# Altium footprint library Motorola Footprints.PcbLib: 408 footprints (part 17 of 26)
Each footprint in its own frame and in the unit in brackets; x right, y up, seen from the top. Pads: shape width x height; smd on the part's side, far side on the other; paste and mask are expansions set on the pad; w line width, h text height; cw(c..) or ccw(c..) is an arc to the next point about the centre after c.
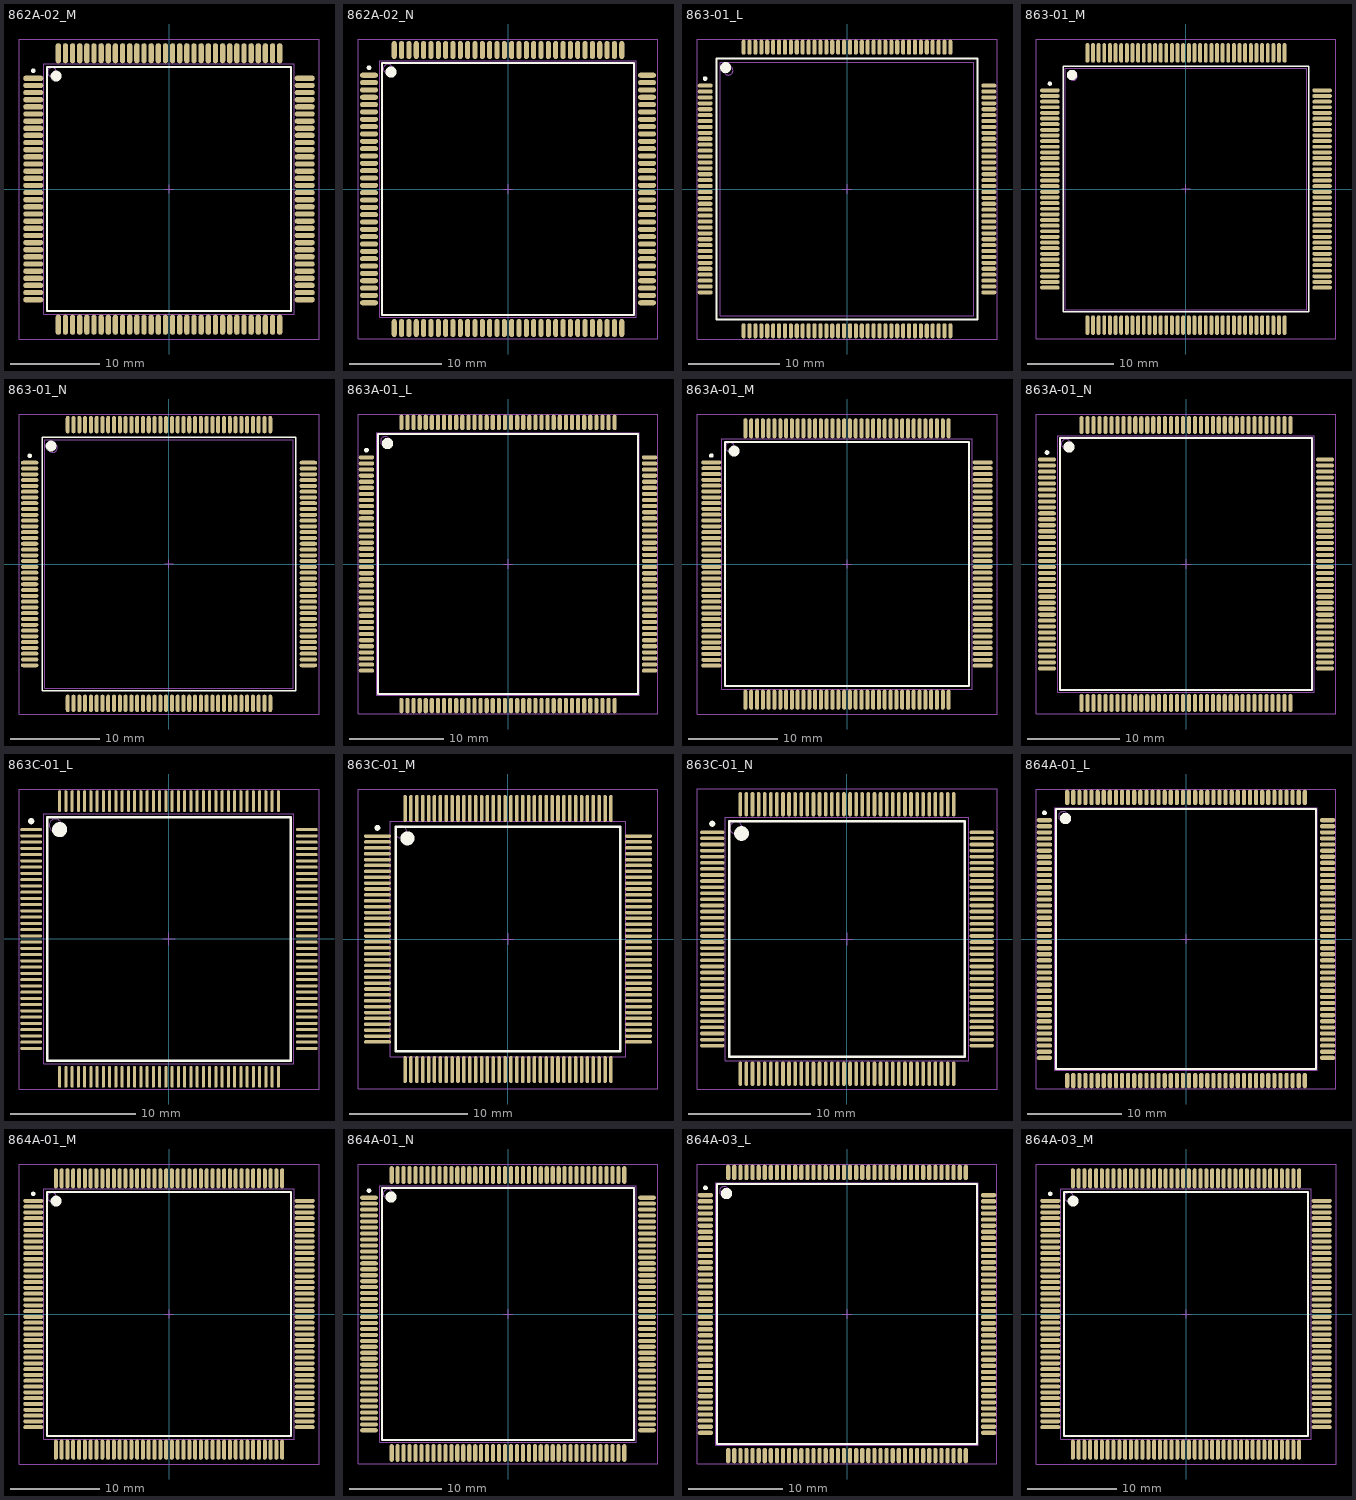
[diagram p16: the footprints below, top view; thin cyan lines are the x and y axes]

## 862A-02_M [mm] "128-Pin Quad Flat Pack 0.8 mm Pitch, IPC Low Density"
height 4.07
pads (128):
  oval 2.25x0.6 smd: 1(-15.2,12.4) 2(-15.2,11.6) 3(-15.2,10.8) 4(-15.2,10) 5(-15.2,9.2) 6(-15.2,8.4) 7(-15.2,7.6) 8(-15.2,6.8) 9(-15.2,6) 10(-15.2,5.2) 11(-15.2,4.4) 12(-15.2,3.6) 13(-15.2,2.8) 14(-15.2,2) 15(-15.2,1.2) 16(-15.2,0.4) 17(-15.2,-0.4) 18(-15.2,-1.2) 19(-15.2,-2) 20(-15.2,-2.8) 21(-15.2,-3.6) 22(-15.2,-4.4) 23(-15.2,-5.2) 24(-15.2,-6) 25(-15.2,-6.8) 26(-15.2,-7.6) 27(-15.2,-8.4) 28(-15.2,-9.2) 29(-15.2,-10) 30(-15.2,-10.8) 31(-15.2,-11.6) 32(-15.2,-12.4) 65(15.2,-12.4) 66(15.2,-11.6) 67(15.2,-10.8) 68(15.2,-10) 69(15.2,-9.2) 70(15.2,-8.4) 71(15.2,-7.6) 72(15.2,-6.8) 73(15.2,-6) 74(15.2,-5.2) 75(15.2,-4.4) 76(15.2,-3.6) 77(15.2,-2.8) 78(15.2,-2) 79(15.2,-1.2) 80(15.2,-0.4) 81(15.2,0.4) 82(15.2,1.2) 83(15.2,2) 84(15.2,2.8) 85(15.2,3.6) 86(15.2,4.4) 87(15.2,5.2) 88(15.2,6) 89(15.2,6.8) 90(15.2,7.6) 91(15.2,8.4) 92(15.2,9.2) 93(15.2,10) 94(15.2,10.8) 95(15.2,11.6) 96(15.2,12.4)
  oval 0.6x2.25 smd: 33(-12.4,-15.2) 34(-11.6,-15.2) 35(-10.8,-15.2) 36(-10,-15.2) 37(-9.2,-15.2) 38(-8.4,-15.2) 39(-7.6,-15.2) 40(-6.8,-15.2) 41(-6,-15.2) 42(-5.2,-15.2) 43(-4.4,-15.2) 44(-3.6,-15.2) 45(-2.8,-15.2) 46(-2,-15.2) 47(-1.2,-15.2) 48(-0.4,-15.2) 49(0.4,-15.2) 50(1.2,-15.2) 51(2,-15.2) 52(2.8,-15.2) 53(3.6,-15.2) 54(4.4,-15.2) 55(5.2,-15.2) 56(6,-15.2) 57(6.8,-15.2) 58(7.6,-15.2) 59(8.4,-15.2) 60(9.2,-15.2) 61(10,-15.2) 62(10.8,-15.2) 63(11.6,-15.2) 64(12.4,-15.2) 97(12.4,15.2) 98(11.6,15.2) 99(10.8,15.2) 100(10,15.2) 101(9.2,15.2) 102(8.4,15.2) 103(7.6,15.2) 104(6.8,15.2) 105(6,15.2) 106(5.2,15.2) 107(4.4,15.2) 108(3.6,15.2) 109(2.8,15.2) 110(2,15.2) 111(1.2,15.2) 112(0.4,15.2) 113(-0.4,15.2) 114(-1.2,15.2) 115(-2,15.2) 116(-2.8,15.2) 117(-3.6,15.2) 118(-4.4,15.2) 119(-5.2,15.2) 120(-6,15.2) 121(-6.8,15.2) 122(-7.6,15.2) 123(-8.4,15.2) 124(-9.2,15.2) 125(-10,15.2) 126(-10.8,15.2) 127(-11.6,15.2) 128(-12.4,15.2)
Top Overlay:
  circle w0.6: c-12.65,12.65 r0.3
  circle w0.25: c-15.2,13.25 r0.125
  lines w0.2: -13.65,-13.65 13.65,-13.65 13.65,13.65 -13.65,13.65 -13.65,-13.65
Mechanical 13:
  circle w0.1: c-13.1,13.1 r0.5
  lines w0.1: -14,-14 14,-14 14,14 -14,14 -14,-14
Mechanical 15:
  lines w0.1: -0.5,0 0.5,0 ; 0,-0.5 0,0.5 ; -16.8,-16.8 16.8,-16.8 16.8,16.8 -16.8,16.8 -16.8,-16.8
3D body: height 4.07, standoff 0, extent -14,-14 14,14

## 862A-02_N [mm] "128-Pin Quad Flat Pack 0.8 mm Pitch, IPC Medium Density"
height 4.07
pads (128):
  oval 1.95x0.55 smd: 1(-15.15,12.4) 2(-15.15,11.6) 3(-15.15,10.8) 4(-15.15,10) 5(-15.15,9.2) 6(-15.15,8.4) 7(-15.15,7.6) 8(-15.15,6.8) 9(-15.15,6) 10(-15.15,5.2) 11(-15.15,4.4) 12(-15.15,3.6) 13(-15.15,2.8) 14(-15.15,2) 15(-15.15,1.2) 16(-15.15,0.4) 17(-15.15,-0.4) 18(-15.15,-1.2) 19(-15.15,-2) 20(-15.15,-2.8) 21(-15.15,-3.6) 22(-15.15,-4.4) 23(-15.15,-5.2) 24(-15.15,-6) 25(-15.15,-6.8) 26(-15.15,-7.6) 27(-15.15,-8.4) 28(-15.15,-9.2) 29(-15.15,-10) 30(-15.15,-10.8) 31(-15.15,-11.6) 32(-15.15,-12.4) 65(15.15,-12.4) 66(15.15,-11.6) 67(15.15,-10.8) 68(15.15,-10) 69(15.15,-9.2) 70(15.15,-8.4) 71(15.15,-7.6) 72(15.15,-6.8) 73(15.15,-6) 74(15.15,-5.2) 75(15.15,-4.4) 76(15.15,-3.6) 77(15.15,-2.8) 78(15.15,-2) 79(15.15,-1.2) 80(15.15,-0.4) 81(15.15,0.4) 82(15.15,1.2) 83(15.15,2) 84(15.15,2.8) 85(15.15,3.6) 86(15.15,4.4) 87(15.15,5.2) 88(15.15,6) 89(15.15,6.8) 90(15.15,7.6) 91(15.15,8.4) 92(15.15,9.2) 93(15.15,10) 94(15.15,10.8) 95(15.15,11.6) 96(15.15,12.4)
  oval 0.55x1.95 smd: 33(-12.4,-15.15) 34(-11.6,-15.15) 35(-10.8,-15.15) 36(-10,-15.15) 37(-9.2,-15.15) 38(-8.4,-15.15) 39(-7.6,-15.15) 40(-6.8,-15.15) 41(-6,-15.15) 42(-5.2,-15.15) 43(-4.4,-15.15) 44(-3.6,-15.15) 45(-2.8,-15.15) 46(-2,-15.15) 47(-1.2,-15.15) 48(-0.4,-15.15) 49(0.4,-15.15) 50(1.2,-15.15) 51(2,-15.15) 52(2.8,-15.15) 53(3.6,-15.15) 54(4.4,-15.15) 55(5.2,-15.15) 56(6,-15.15) 57(6.8,-15.15) 58(7.6,-15.15) 59(8.4,-15.15) 60(9.2,-15.15) 61(10,-15.15) 62(10.8,-15.15) 63(11.6,-15.15) 64(12.4,-15.15) 97(12.4,15.15) 98(11.6,15.15) 99(10.8,15.15) 100(10,15.15) 101(9.2,15.15) 102(8.4,15.15) 103(7.6,15.15) 104(6.8,15.15) 105(6,15.15) 106(5.2,15.15) 107(4.4,15.15) 108(3.6,15.15) 109(2.8,15.15) 110(2,15.15) 111(1.2,15.15) 112(0.4,15.15) 113(-0.4,15.15) 114(-1.2,15.15) 115(-2,15.15) 116(-2.8,15.15) 117(-3.6,15.15) 118(-4.4,15.15) 119(-5.2,15.15) 120(-6,15.15) 121(-6.8,15.15) 122(-7.6,15.15) 123(-8.4,15.15) 124(-9.2,15.15) 125(-10,15.15) 126(-10.8,15.15) 127(-11.6,15.15) 128(-12.4,15.15)
Top Overlay:
  circle w0.6: c-12.75,12.75 r0.3
  circle w0.25: c-15.15,13.225 r0.125
  lines w0.2: -13.75,-13.75 13.75,-13.75 13.75,13.75 -13.75,13.75 -13.75,-13.75
Mechanical 13:
  circle w0.1: c-13.1,13.1 r0.5
  lines w0.1: -14,-14 14,-14 14,14 -14,14 -14,-14
Mechanical 15:
  lines w0.1: -0.5,0 0.5,0 ; 0,-0.5 0,0.5 ; -16.35,-16.35 16.35,-16.35 16.35,16.35 -16.35,16.35 -16.35,-16.35
3D body: height 4.07, standoff 0, extent -14,-14 14,14

## 863-01_L [mm] "144-Pin Ceramic Quad Flat Pack 0.65 mm Pitch, IPC High Density"
height 3.93
pads (144):
  oval 1.65x0.45 smd: 1(-15.6,11.375) 2(-15.6,10.725) 3(-15.6,10.075) 4(-15.6,9.425) 5(-15.6,8.775) 6(-15.6,8.125) 7(-15.6,7.475) 8(-15.6,6.825) 9(-15.6,6.175) 10(-15.6,5.525) 11(-15.6,4.875) 12(-15.6,4.225) 13(-15.6,3.575) 14(-15.6,2.925) 15(-15.6,2.275) 16(-15.6,1.625) 17(-15.6,0.975) 18(-15.6,0.325) 19(-15.6,-0.325) 20(-15.6,-0.975) 21(-15.6,-1.625) 22(-15.6,-2.275) 23(-15.6,-2.925) 24(-15.6,-3.575) 25(-15.6,-4.225) 26(-15.6,-4.875) 27(-15.6,-5.525) 28(-15.6,-6.175) 29(-15.6,-6.825) 30(-15.6,-7.475) 31(-15.6,-8.125) 32(-15.6,-8.775) 33(-15.6,-9.425) 34(-15.6,-10.075) 35(-15.6,-10.725) 36(-15.6,-11.375) 73(15.6,-11.375) 74(15.6,-10.725) 75(15.6,-10.075) 76(15.6,-9.425) 77(15.6,-8.775) 78(15.6,-8.125) 79(15.6,-7.475) 80(15.6,-6.825) 81(15.6,-6.175) 82(15.6,-5.525) 83(15.6,-4.875) 84(15.6,-4.225) 85(15.6,-3.575) 86(15.6,-2.925) 87(15.6,-2.275) 88(15.6,-1.625) 89(15.6,-0.975) 90(15.6,-0.325) 91(15.6,0.325) 92(15.6,0.975) 93(15.6,1.625) 94(15.6,2.275) 95(15.6,2.925) 96(15.6,3.575) 97(15.6,4.225) 98(15.6,4.875) 99(15.6,5.525) 100(15.6,6.175) 101(15.6,6.825) 102(15.6,7.475) 103(15.6,8.125) 104(15.6,8.775) 105(15.6,9.425) 106(15.6,10.075) 107(15.6,10.725) 108(15.6,11.375)
  oval 0.45x1.65 smd: 37(-11.375,-15.6) 38(-10.725,-15.6) 39(-10.075,-15.6) 40(-9.425,-15.6) 41(-8.775,-15.6) 42(-8.125,-15.6) 43(-7.475,-15.6) 44(-6.825,-15.6) 45(-6.175,-15.6) 46(-5.525,-15.6) 47(-4.875,-15.6) 48(-4.225,-15.6) 49(-3.575,-15.6) 50(-2.925,-15.6) 51(-2.275,-15.6) 52(-1.625,-15.6) 53(-0.975,-15.6) 54(-0.325,-15.6) 55(0.325,-15.6) 56(0.975,-15.6) 57(1.625,-15.6) 58(2.275,-15.6) 59(2.925,-15.6) 60(3.575,-15.6) 61(4.225,-15.6) 62(4.875,-15.6) 63(5.525,-15.6) 64(6.175,-15.6) 65(6.825,-15.6) 66(7.475,-15.6) 67(8.125,-15.6) 68(8.775,-15.6) 69(9.425,-15.6) 70(10.075,-15.6) 71(10.725,-15.6) 72(11.375,-15.6) 109(11.375,15.6) 110(10.725,15.6) 111(10.075,15.6) 112(9.425,15.6) 113(8.775,15.6) 114(8.125,15.6) 115(7.475,15.6) 116(6.825,15.6) 117(6.175,15.6) 118(5.525,15.6) 119(4.875,15.6) 120(4.225,15.6) 121(3.575,15.6) 122(2.925,15.6) 123(2.275,15.6) 124(1.625,15.6) 125(0.975,15.6) 126(0.325,15.6) 127(-0.325,15.6) 128(-0.975,15.6) 129(-1.625,15.6) 130(-2.275,15.6) 131(-2.925,15.6) 132(-3.575,15.6) 133(-4.225,15.6) 134(-4.875,15.6) 135(-5.525,15.6) 136(-6.175,15.6) 137(-6.825,15.6) 138(-7.475,15.6) 139(-8.125,15.6) 140(-8.775,15.6) 141(-9.425,15.6) 142(-10.075,15.6) 143(-10.725,15.6) 144(-11.375,15.6)
Top Overlay:
  circle w0.6: c-13.35,13.35 r0.3
  circle w0.25: c-15.6,12.15 r0.125
  lines w0.2: -14.35,-14.35 14.35,-14.35 14.35,14.35 -14.35,14.35 -14.35,-14.35
Mechanical 13:
  circle w0.1: c-13.035,13.035 r0.5
  lines w0.1: -13.935,-13.935 13.935,-13.935 13.935,13.935 -13.935,13.935 -13.935,-13.935
Mechanical 15:
  lines w0.1: -0.5,0 0.5,0 ; 0,-0.5 0,0.5 ; -16.5,-16.5 16.5,-16.5 16.5,16.5 -16.5,16.5 -16.5,-16.5
3D body: height 3.93, standoff 0, extent -13.935,-13.935 13.935,13.935

## 863-01_M [mm] "144-Pin Ceramic Quad Flat Pack 0.65 mm Pitch, IPC Low Density"
height 3.93
pads (144):
  oval 2.25x0.45 smd: 1(-15.7,11.375) 2(-15.7,10.725) 3(-15.7,10.075) 4(-15.7,9.425) 5(-15.7,8.775) 6(-15.7,8.125) 7(-15.7,7.475) 8(-15.7,6.825) 9(-15.7,6.175) 10(-15.7,5.525) 11(-15.7,4.875) 12(-15.7,4.225) 13(-15.7,3.575) 14(-15.7,2.925) 15(-15.7,2.275) 16(-15.7,1.625) 17(-15.7,0.975) 18(-15.7,0.325) 19(-15.7,-0.325) 20(-15.7,-0.975) 21(-15.7,-1.625) 22(-15.7,-2.275) 23(-15.7,-2.925) 24(-15.7,-3.575) 25(-15.7,-4.225) 26(-15.7,-4.875) 27(-15.7,-5.525) 28(-15.7,-6.175) 29(-15.7,-6.825) 30(-15.7,-7.475) 31(-15.7,-8.125) 32(-15.7,-8.775) 33(-15.7,-9.425) 34(-15.7,-10.075) 35(-15.7,-10.725) 36(-15.7,-11.375) 73(15.7,-11.375) 74(15.7,-10.725) 75(15.7,-10.075) 76(15.7,-9.425) 77(15.7,-8.775) 78(15.7,-8.125) 79(15.7,-7.475) 80(15.7,-6.825) 81(15.7,-6.175) 82(15.7,-5.525) 83(15.7,-4.875) 84(15.7,-4.225) 85(15.7,-3.575) 86(15.7,-2.925) 87(15.7,-2.275) 88(15.7,-1.625) 89(15.7,-0.975) 90(15.7,-0.325) 91(15.7,0.325) 92(15.7,0.975) 93(15.7,1.625) 94(15.7,2.275) 95(15.7,2.925) 96(15.7,3.575) 97(15.7,4.225) 98(15.7,4.875) 99(15.7,5.525) 100(15.7,6.175) 101(15.7,6.825) 102(15.7,7.475) 103(15.7,8.125) 104(15.7,8.775) 105(15.7,9.425) 106(15.7,10.075) 107(15.7,10.725) 108(15.7,11.375)
  oval 0.45x2.25 smd: 37(-11.375,-15.7) 38(-10.725,-15.7) 39(-10.075,-15.7) 40(-9.425,-15.7) 41(-8.775,-15.7) 42(-8.125,-15.7) 43(-7.475,-15.7) 44(-6.825,-15.7) 45(-6.175,-15.7) 46(-5.525,-15.7) 47(-4.875,-15.7) 48(-4.225,-15.7) 49(-3.575,-15.7) 50(-2.925,-15.7) 51(-2.275,-15.7) 52(-1.625,-15.7) 53(-0.975,-15.7) 54(-0.325,-15.7) 55(0.325,-15.7) 56(0.975,-15.7) 57(1.625,-15.7) 58(2.275,-15.7) 59(2.925,-15.7) 60(3.575,-15.7) 61(4.225,-15.7) 62(4.875,-15.7) 63(5.525,-15.7) 64(6.175,-15.7) 65(6.825,-15.7) 66(7.475,-15.7) 67(8.125,-15.7) 68(8.775,-15.7) 69(9.425,-15.7) 70(10.075,-15.7) 71(10.725,-15.7) 72(11.375,-15.7) 109(11.375,15.7) 110(10.725,15.7) 111(10.075,15.7) 112(9.425,15.7) 113(8.775,15.7) 114(8.125,15.7) 115(7.475,15.7) 116(6.825,15.7) 117(6.175,15.7) 118(5.525,15.7) 119(4.875,15.7) 120(4.225,15.7) 121(3.575,15.7) 122(2.925,15.7) 123(2.275,15.7) 124(1.625,15.7) 125(0.975,15.7) 126(0.325,15.7) 127(-0.325,15.7) 128(-0.975,15.7) 129(-1.625,15.7) 130(-2.275,15.7) 131(-2.925,15.7) 132(-3.575,15.7) 133(-4.225,15.7) 134(-4.875,15.7) 135(-5.525,15.7) 136(-6.175,15.7) 137(-6.825,15.7) 138(-7.475,15.7) 139(-8.125,15.7) 140(-8.775,15.7) 141(-9.425,15.7) 142(-10.075,15.7) 143(-10.725,15.7) 144(-11.375,15.7)
Top Overlay:
  circle w0.6: c-13.15,13.15 r0.3
  circle w0.25: c-15.7,12.15 r0.125
  lines w0.2: -14.15,-14.15 14.15,-14.15 14.15,14.15 -14.15,14.15 -14.15,-14.15
Mechanical 13:
  circle w0.1: c-13.035,13.035 r0.5
  lines w0.1: -13.935,-13.935 13.935,-13.935 13.935,13.935 -13.935,13.935 -13.935,-13.935
Mechanical 15:
  lines w0.1: -0.5,0 0.5,0 ; 0,-0.5 0,0.5 ; -17.3,-17.3 17.3,-17.3 17.3,17.3 -17.3,17.3 -17.3,-17.3
3D body: height 3.93, standoff 0, extent -13.935,-13.935 13.935,13.935

## 863-01_N [mm] "144-Pin Ceramic Quad Flat Pack 0.65 mm Pitch, IPC Medium Density"
height 3.93
pads (144):
  oval 1.95x0.45 smd: 1(-15.65,11.375) 2(-15.65,10.725) 3(-15.65,10.075) 4(-15.65,9.425) 5(-15.65,8.775) 6(-15.65,8.125) 7(-15.65,7.475) 8(-15.65,6.825) 9(-15.65,6.175) 10(-15.65,5.525) 11(-15.65,4.875) 12(-15.65,4.225) 13(-15.65,3.575) 14(-15.65,2.925) 15(-15.65,2.275) 16(-15.65,1.625) 17(-15.65,0.975) 18(-15.65,0.325) 19(-15.65,-0.325) 20(-15.65,-0.975) 21(-15.65,-1.625) 22(-15.65,-2.275) 23(-15.65,-2.925) 24(-15.65,-3.575) 25(-15.65,-4.225) 26(-15.65,-4.875) 27(-15.65,-5.525) 28(-15.65,-6.175) 29(-15.65,-6.825) 30(-15.65,-7.475) 31(-15.65,-8.125) 32(-15.65,-8.775) 33(-15.65,-9.425) 34(-15.65,-10.075) 35(-15.65,-10.725) 36(-15.65,-11.375) 73(15.65,-11.375) 74(15.65,-10.725) 75(15.65,-10.075) 76(15.65,-9.425) 77(15.65,-8.775) 78(15.65,-8.125) 79(15.65,-7.475) 80(15.65,-6.825) 81(15.65,-6.175) 82(15.65,-5.525) 83(15.65,-4.875) 84(15.65,-4.225) 85(15.65,-3.575) 86(15.65,-2.925) 87(15.65,-2.275) 88(15.65,-1.625) 89(15.65,-0.975) 90(15.65,-0.325) 91(15.65,0.325) 92(15.65,0.975) 93(15.65,1.625) 94(15.65,2.275) 95(15.65,2.925) 96(15.65,3.575) 97(15.65,4.225) 98(15.65,4.875) 99(15.65,5.525) 100(15.65,6.175) 101(15.65,6.825) 102(15.65,7.475) 103(15.65,8.125) 104(15.65,8.775) 105(15.65,9.425) 106(15.65,10.075) 107(15.65,10.725) 108(15.65,11.375)
  oval 0.45x1.95 smd: 37(-11.375,-15.65) 38(-10.725,-15.65) 39(-10.075,-15.65) 40(-9.425,-15.65) 41(-8.775,-15.65) 42(-8.125,-15.65) 43(-7.475,-15.65) 44(-6.825,-15.65) 45(-6.175,-15.65) 46(-5.525,-15.65) 47(-4.875,-15.65) 48(-4.225,-15.65) 49(-3.575,-15.65) 50(-2.925,-15.65) 51(-2.275,-15.65) 52(-1.625,-15.65) 53(-0.975,-15.65) 54(-0.325,-15.65) 55(0.325,-15.65) 56(0.975,-15.65) 57(1.625,-15.65) 58(2.275,-15.65) 59(2.925,-15.65) 60(3.575,-15.65) 61(4.225,-15.65) 62(4.875,-15.65) 63(5.525,-15.65) 64(6.175,-15.65) 65(6.825,-15.65) 66(7.475,-15.65) 67(8.125,-15.65) 68(8.775,-15.65) 69(9.425,-15.65) 70(10.075,-15.65) 71(10.725,-15.65) 72(11.375,-15.65) 109(11.375,15.65) 110(10.725,15.65) 111(10.075,15.65) 112(9.425,15.65) 113(8.775,15.65) 114(8.125,15.65) 115(7.475,15.65) 116(6.825,15.65) 117(6.175,15.65) 118(5.525,15.65) 119(4.875,15.65) 120(4.225,15.65) 121(3.575,15.65) 122(2.925,15.65) 123(2.275,15.65) 124(1.625,15.65) 125(0.975,15.65) 126(0.325,15.65) 127(-0.325,15.65) 128(-0.975,15.65) 129(-1.625,15.65) 130(-2.275,15.65) 131(-2.925,15.65) 132(-3.575,15.65) 133(-4.225,15.65) 134(-4.875,15.65) 135(-5.525,15.65) 136(-6.175,15.65) 137(-6.825,15.65) 138(-7.475,15.65) 139(-8.125,15.65) 140(-8.775,15.65) 141(-9.425,15.65) 142(-10.075,15.65) 143(-10.725,15.65) 144(-11.375,15.65)
Top Overlay:
  circle w0.6: c-13.25,13.25 r0.3
  circle w0.25: c-15.65,12.15 r0.125
  lines w0.2: -14.25,-14.25 14.25,-14.25 14.25,14.25 -14.25,14.25 -14.25,-14.25
Mechanical 13:
  circle w0.1: c-13.035,13.035 r0.5
  lines w0.1: -13.935,-13.935 13.935,-13.935 13.935,13.935 -13.935,13.935 -13.935,-13.935
Mechanical 15:
  lines w0.1: -0.5,0 0.5,0 ; 0,-0.5 0,0.5 ; -16.85,-16.85 16.85,-16.85 16.85,16.85 -16.85,16.85 -16.85,-16.85
3D body: height 3.93, standoff 0, extent -13.935,-13.935 13.935,13.935

## 863A-01_L [mm] "144-Pin Quad Flat Pack 0.65 mm Pitch, IPC High Density"
height 4.31
pads (144):
  oval 1.65x0.45 smd: 1(-15.1,11.375) 2(-15.1,10.725) 3(-15.1,10.075) 4(-15.1,9.425) 5(-15.1,8.775) 6(-15.1,8.125) 7(-15.1,7.475) 8(-15.1,6.825) 9(-15.1,6.175) 10(-15.1,5.525) 11(-15.1,4.875) 12(-15.1,4.225) 13(-15.1,3.575) 14(-15.1,2.925) 15(-15.1,2.275) 16(-15.1,1.625) 17(-15.1,0.975) 18(-15.1,0.325) 19(-15.1,-0.325) 20(-15.1,-0.975) 21(-15.1,-1.625) 22(-15.1,-2.275) 23(-15.1,-2.925) 24(-15.1,-3.575) 25(-15.1,-4.225) 26(-15.1,-4.875) 27(-15.1,-5.525) 28(-15.1,-6.175) 29(-15.1,-6.825) 30(-15.1,-7.475) 31(-15.1,-8.125) 32(-15.1,-8.775) 33(-15.1,-9.425) 34(-15.1,-10.075) 35(-15.1,-10.725) 36(-15.1,-11.375) 73(15.1,-11.375) 74(15.1,-10.725) 75(15.1,-10.075) 76(15.1,-9.425) 77(15.1,-8.775) 78(15.1,-8.125) 79(15.1,-7.475) 80(15.1,-6.825) 81(15.1,-6.175) 82(15.1,-5.525) 83(15.1,-4.875) 84(15.1,-4.225) 85(15.1,-3.575) 86(15.1,-2.925) 87(15.1,-2.275) 88(15.1,-1.625) 89(15.1,-0.975) 90(15.1,-0.325) 91(15.1,0.325) 92(15.1,0.975) 93(15.1,1.625) 94(15.1,2.275) 95(15.1,2.925) 96(15.1,3.575) 97(15.1,4.225) 98(15.1,4.875) 99(15.1,5.525) 100(15.1,6.175) 101(15.1,6.825) 102(15.1,7.475) 103(15.1,8.125) 104(15.1,8.775) 105(15.1,9.425) 106(15.1,10.075) 107(15.1,10.725) 108(15.1,11.375)
  oval 0.45x1.65 smd: 37(-11.375,-15.1) 38(-10.725,-15.1) 39(-10.075,-15.1) 40(-9.425,-15.1) 41(-8.775,-15.1) 42(-8.125,-15.1) 43(-7.475,-15.1) 44(-6.825,-15.1) 45(-6.175,-15.1) 46(-5.525,-15.1) 47(-4.875,-15.1) 48(-4.225,-15.1) 49(-3.575,-15.1) 50(-2.925,-15.1) 51(-2.275,-15.1) 52(-1.625,-15.1) 53(-0.975,-15.1) 54(-0.325,-15.1) 55(0.325,-15.1) 56(0.975,-15.1) 57(1.625,-15.1) 58(2.275,-15.1) 59(2.925,-15.1) 60(3.575,-15.1) 61(4.225,-15.1) 62(4.875,-15.1) 63(5.525,-15.1) 64(6.175,-15.1) 65(6.825,-15.1) 66(7.475,-15.1) 67(8.125,-15.1) 68(8.775,-15.1) 69(9.425,-15.1) 70(10.075,-15.1) 71(10.725,-15.1) 72(11.375,-15.1) 109(11.375,15.1) 110(10.725,15.1) 111(10.075,15.1) 112(9.425,15.1) 113(8.775,15.1) 114(8.125,15.1) 115(7.475,15.1) 116(6.825,15.1) 117(6.175,15.1) 118(5.525,15.1) 119(4.875,15.1) 120(4.225,15.1) 121(3.575,15.1) 122(2.925,15.1) 123(2.275,15.1) 124(1.625,15.1) 125(0.975,15.1) 126(0.325,15.1) 127(-0.325,15.1) 128(-0.975,15.1) 129(-1.625,15.1) 130(-2.275,15.1) 131(-2.925,15.1) 132(-3.575,15.1) 133(-4.225,15.1) 134(-4.875,15.1) 135(-5.525,15.1) 136(-6.175,15.1) 137(-6.825,15.1) 138(-7.475,15.1) 139(-8.125,15.1) 140(-8.775,15.1) 141(-9.425,15.1) 142(-10.075,15.1) 143(-10.725,15.1) 144(-11.375,15.1)
Top Overlay:
  circle w0.6: c-12.85,12.85 r0.3
  circle w0.25: c-15.1,12.15 r0.125
  lines w0.2: -13.85,-13.85 13.85,-13.85 13.85,13.85 -13.85,13.85 -13.85,-13.85
Mechanical 13:
  circle w0.1: c-13.1,13.1 r0.5
  lines w0.1: -14,-14 14,-14 14,14 -14,14 -14,-14
Mechanical 15:
  lines w0.1: -0.5,0 0.5,0 ; 0,-0.5 0,0.5 ; -16,-16 16,-16 16,16 -16,16 -16,-16
3D body: height 4.31, standoff 0, extent -14,-14 14,14

## 863A-01_M [mm] "144-Pin Quad Flat Pack 0.65 mm Pitch, IPC Low Density"
height 4.31
pads (144):
  oval 2.25x0.45 smd: 1(-15.2,11.375) 2(-15.2,10.725) 3(-15.2,10.075) 4(-15.2,9.425) 5(-15.2,8.775) 6(-15.2,8.125) 7(-15.2,7.475) 8(-15.2,6.825) 9(-15.2,6.175) 10(-15.2,5.525) 11(-15.2,4.875) 12(-15.2,4.225) 13(-15.2,3.575) 14(-15.2,2.925) 15(-15.2,2.275) 16(-15.2,1.625) 17(-15.2,0.975) 18(-15.2,0.325) 19(-15.2,-0.325) 20(-15.2,-0.975) 21(-15.2,-1.625) 22(-15.2,-2.275) 23(-15.2,-2.925) 24(-15.2,-3.575) 25(-15.2,-4.225) 26(-15.2,-4.875) 27(-15.2,-5.525) 28(-15.2,-6.175) 29(-15.2,-6.825) 30(-15.2,-7.475) 31(-15.2,-8.125) 32(-15.2,-8.775) 33(-15.2,-9.425) 34(-15.2,-10.075) 35(-15.2,-10.725) 36(-15.2,-11.375) 73(15.2,-11.375) 74(15.2,-10.725) 75(15.2,-10.075) 76(15.2,-9.425) 77(15.2,-8.775) 78(15.2,-8.125) 79(15.2,-7.475) 80(15.2,-6.825) 81(15.2,-6.175) 82(15.2,-5.525) 83(15.2,-4.875) 84(15.2,-4.225) 85(15.2,-3.575) 86(15.2,-2.925) 87(15.2,-2.275) 88(15.2,-1.625) 89(15.2,-0.975) 90(15.2,-0.325) 91(15.2,0.325) 92(15.2,0.975) 93(15.2,1.625) 94(15.2,2.275) 95(15.2,2.925) 96(15.2,3.575) 97(15.2,4.225) 98(15.2,4.875) 99(15.2,5.525) 100(15.2,6.175) 101(15.2,6.825) 102(15.2,7.475) 103(15.2,8.125) 104(15.2,8.775) 105(15.2,9.425) 106(15.2,10.075) 107(15.2,10.725) 108(15.2,11.375)
  oval 0.45x2.25 smd: 37(-11.375,-15.2) 38(-10.725,-15.2) 39(-10.075,-15.2) 40(-9.425,-15.2) 41(-8.775,-15.2) 42(-8.125,-15.2) 43(-7.475,-15.2) 44(-6.825,-15.2) 45(-6.175,-15.2) 46(-5.525,-15.2) 47(-4.875,-15.2) 48(-4.225,-15.2) 49(-3.575,-15.2) 50(-2.925,-15.2) 51(-2.275,-15.2) 52(-1.625,-15.2) 53(-0.975,-15.2) 54(-0.325,-15.2) 55(0.325,-15.2) 56(0.975,-15.2) 57(1.625,-15.2) 58(2.275,-15.2) 59(2.925,-15.2) 60(3.575,-15.2) 61(4.225,-15.2) 62(4.875,-15.2) 63(5.525,-15.2) 64(6.175,-15.2) 65(6.825,-15.2) 66(7.475,-15.2) 67(8.125,-15.2) 68(8.775,-15.2) 69(9.425,-15.2) 70(10.075,-15.2) 71(10.725,-15.2) 72(11.375,-15.2) 109(11.375,15.2) 110(10.725,15.2) 111(10.075,15.2) 112(9.425,15.2) 113(8.775,15.2) 114(8.125,15.2) 115(7.475,15.2) 116(6.825,15.2) 117(6.175,15.2) 118(5.525,15.2) 119(4.875,15.2) 120(4.225,15.2) 121(3.575,15.2) 122(2.925,15.2) 123(2.275,15.2) 124(1.625,15.2) 125(0.975,15.2) 126(0.325,15.2) 127(-0.325,15.2) 128(-0.975,15.2) 129(-1.625,15.2) 130(-2.275,15.2) 131(-2.925,15.2) 132(-3.575,15.2) 133(-4.225,15.2) 134(-4.875,15.2) 135(-5.525,15.2) 136(-6.175,15.2) 137(-6.825,15.2) 138(-7.475,15.2) 139(-8.125,15.2) 140(-8.775,15.2) 141(-9.425,15.2) 142(-10.075,15.2) 143(-10.725,15.2) 144(-11.375,15.2)
Top Overlay:
  circle w0.6: c-12.65,12.65 r0.3
  circle w0.25: c-15.2,12.15 r0.125
  lines w0.2: -13.65,-13.65 13.65,-13.65 13.65,13.65 -13.65,13.65 -13.65,-13.65
Mechanical 13:
  circle w0.1: c-13.1,13.1 r0.5
  lines w0.1: -14,-14 14,-14 14,14 -14,14 -14,-14
Mechanical 15:
  lines w0.1: -0.5,0 0.5,0 ; 0,-0.5 0,0.5 ; -16.8,-16.8 16.8,-16.8 16.8,16.8 -16.8,16.8 -16.8,-16.8
3D body: height 4.31, standoff 0, extent -14,-14 14,14

## 863A-01_N [mm] "144-Pin Quad Flat Pack 0.65 mm Pitch, IPC Medium Density"
height 4.31
pads (144):
  oval 1.95x0.45 smd: 1(-15.15,11.375) 2(-15.15,10.725) 3(-15.15,10.075) 4(-15.15,9.425) 5(-15.15,8.775) 6(-15.15,8.125) 7(-15.15,7.475) 8(-15.15,6.825) 9(-15.15,6.175) 10(-15.15,5.525) 11(-15.15,4.875) 12(-15.15,4.225) 13(-15.15,3.575) 14(-15.15,2.925) 15(-15.15,2.275) 16(-15.15,1.625) 17(-15.15,0.975) 18(-15.15,0.325) 19(-15.15,-0.325) 20(-15.15,-0.975) 21(-15.15,-1.625) 22(-15.15,-2.275) 23(-15.15,-2.925) 24(-15.15,-3.575) 25(-15.15,-4.225) 26(-15.15,-4.875) 27(-15.15,-5.525) 28(-15.15,-6.175) 29(-15.15,-6.825) 30(-15.15,-7.475) 31(-15.15,-8.125) 32(-15.15,-8.775) 33(-15.15,-9.425) 34(-15.15,-10.075) 35(-15.15,-10.725) 36(-15.15,-11.375) 73(15.15,-11.375) 74(15.15,-10.725) 75(15.15,-10.075) 76(15.15,-9.425) 77(15.15,-8.775) 78(15.15,-8.125) 79(15.15,-7.475) 80(15.15,-6.825) 81(15.15,-6.175) 82(15.15,-5.525) 83(15.15,-4.875) 84(15.15,-4.225) 85(15.15,-3.575) 86(15.15,-2.925) 87(15.15,-2.275) 88(15.15,-1.625) 89(15.15,-0.975) 90(15.15,-0.325) 91(15.15,0.325) 92(15.15,0.975) 93(15.15,1.625) 94(15.15,2.275) 95(15.15,2.925) 96(15.15,3.575) 97(15.15,4.225) 98(15.15,4.875) 99(15.15,5.525) 100(15.15,6.175) 101(15.15,6.825) 102(15.15,7.475) 103(15.15,8.125) 104(15.15,8.775) 105(15.15,9.425) 106(15.15,10.075) 107(15.15,10.725) 108(15.15,11.375)
  oval 0.45x1.95 smd: 37(-11.375,-15.15) 38(-10.725,-15.15) 39(-10.075,-15.15) 40(-9.425,-15.15) 41(-8.775,-15.15) 42(-8.125,-15.15) 43(-7.475,-15.15) 44(-6.825,-15.15) 45(-6.175,-15.15) 46(-5.525,-15.15) 47(-4.875,-15.15) 48(-4.225,-15.15) 49(-3.575,-15.15) 50(-2.925,-15.15) 51(-2.275,-15.15) 52(-1.625,-15.15) 53(-0.975,-15.15) 54(-0.325,-15.15) 55(0.325,-15.15) 56(0.975,-15.15) 57(1.625,-15.15) 58(2.275,-15.15) 59(2.925,-15.15) 60(3.575,-15.15) 61(4.225,-15.15) 62(4.875,-15.15) 63(5.525,-15.15) 64(6.175,-15.15) 65(6.825,-15.15) 66(7.475,-15.15) 67(8.125,-15.15) 68(8.775,-15.15) 69(9.425,-15.15) 70(10.075,-15.15) 71(10.725,-15.15) 72(11.375,-15.15) 109(11.375,15.15) 110(10.725,15.15) 111(10.075,15.15) 112(9.425,15.15) 113(8.775,15.15) 114(8.125,15.15) 115(7.475,15.15) 116(6.825,15.15) 117(6.175,15.15) 118(5.525,15.15) 119(4.875,15.15) 120(4.225,15.15) 121(3.575,15.15) 122(2.925,15.15) 123(2.275,15.15) 124(1.625,15.15) 125(0.975,15.15) 126(0.325,15.15) 127(-0.325,15.15) 128(-0.975,15.15) 129(-1.625,15.15) 130(-2.275,15.15) 131(-2.925,15.15) 132(-3.575,15.15) 133(-4.225,15.15) 134(-4.875,15.15) 135(-5.525,15.15) 136(-6.175,15.15) 137(-6.825,15.15) 138(-7.475,15.15) 139(-8.125,15.15) 140(-8.775,15.15) 141(-9.425,15.15) 142(-10.075,15.15) 143(-10.725,15.15) 144(-11.375,15.15)
Top Overlay:
  circle w0.6: c-12.75,12.75 r0.3
  circle w0.25: c-15.15,12.15 r0.125
  lines w0.2: -13.75,-13.75 13.75,-13.75 13.75,13.75 -13.75,13.75 -13.75,-13.75
Mechanical 13:
  circle w0.1: c-13.1,13.1 r0.5
  lines w0.1: -14,-14 14,-14 14,14 -14,14 -14,-14
Mechanical 15:
  lines w0.1: -0.5,0 0.5,0 ; 0,-0.5 0,0.5 ; -16.35,-16.35 16.35,-16.35 16.35,16.35 -16.35,16.35 -16.35,-16.35
3D body: height 4.31, standoff 0, extent -14,-14 14,14

## 863C-01_L [mm] "144-Pin Shrink Quad Flat Pack 0.5 mm Pitch, IPC High Density"
height 3
pads (144):
  oval 1.75x0.25 smd: 1(-11.025,8.75) 2(-11.025,8.25) 3(-11.025,7.75) 4(-11.025,7.25) 5(-11.025,6.75) 6(-11.025,6.25) 7(-11.025,5.75) 8(-11.025,5.25) 9(-11.025,4.75) 10(-11.025,4.25) 11(-11.025,3.75) 12(-11.025,3.25) 13(-11.025,2.75) 14(-11.025,2.25) 15(-11.025,1.75) 16(-11.025,1.25) 17(-11.025,0.75) 18(-11.025,0.25) 19(-11.025,-0.25) 20(-11.025,-0.75) 21(-11.025,-1.25) 22(-11.025,-1.75) 23(-11.025,-2.25) 24(-11.025,-2.75) 25(-11.025,-3.25) 26(-11.025,-3.75) 27(-11.025,-4.25) 28(-11.025,-4.75) 29(-11.025,-5.25) 30(-11.025,-5.75) 31(-11.025,-6.25) 32(-11.025,-6.75) 33(-11.025,-7.25) 34(-11.025,-7.75) 35(-11.025,-8.25) 36(-11.025,-8.75) 73(11.025,-8.75) 74(11.025,-8.25) 75(11.025,-7.75) 76(11.025,-7.25) 77(11.025,-6.75) 78(11.025,-6.25) 79(11.025,-5.75) 80(11.025,-5.25) 81(11.025,-4.75) 82(11.025,-4.25) 83(11.025,-3.75) 84(11.025,-3.25) 85(11.025,-2.75) 86(11.025,-2.25) 87(11.025,-1.75) 88(11.025,-1.25) 89(11.025,-0.75) 90(11.025,-0.25) 91(11.025,0.25) 92(11.025,0.75) 93(11.025,1.25) 94(11.025,1.75) 95(11.025,2.25) 96(11.025,2.75) 97(11.025,3.25) 98(11.025,3.75) 99(11.025,4.25) 100(11.025,4.75) 101(11.025,5.25) 102(11.025,5.75) 103(11.025,6.25) 104(11.025,6.75) 105(11.025,7.25) 106(11.025,7.75) 107(11.025,8.25) 108(11.025,8.75)
  oval 0.25x1.75 smd: 37(-8.75,-11.025) 38(-8.25,-11.025) 39(-7.75,-11.025) 40(-7.25,-11.025) 41(-6.75,-11.025) 42(-6.25,-11.025) 43(-5.75,-11.025) 44(-5.25,-11.025) 45(-4.75,-11.025) 46(-4.25,-11.025) 47(-3.75,-11.025) 48(-3.25,-11.025) 49(-2.75,-11.025) 50(-2.25,-11.025) 51(-1.75,-11.025) 52(-1.25,-11.025) 53(-0.75,-11.025) 54(-0.25,-11.025) 55(0.25,-11.025) 56(0.75,-11.025) 57(1.25,-11.025) 58(1.75,-11.025) 59(2.25,-11.025) 60(2.75,-11.025) 61(3.25,-11.025) 62(3.75,-11.025) 63(4.25,-11.025) 64(4.75,-11.025) 65(5.25,-11.025) 66(5.75,-11.025) 67(6.25,-11.025) 68(6.75,-11.025) 69(7.25,-11.025) 70(7.75,-11.025) 71(8.25,-11.025) 72(8.75,-11.025) 109(8.75,11.025) 110(8.25,11.025) 111(7.75,11.025) 112(7.25,11.025) 113(6.75,11.025) 114(6.25,11.025) 115(5.75,11.025) 116(5.25,11.025) 117(4.75,11.025) 118(4.25,11.025) 119(3.75,11.025) 120(3.25,11.025) 121(2.75,11.025) 122(2.25,11.025) 123(1.75,11.025) 124(1.25,11.025) 125(0.75,11.025) 126(0.25,11.025) 127(-0.25,11.025) 128(-0.75,11.025) 129(-1.25,11.025) 130(-1.75,11.025) 131(-2.25,11.025) 132(-2.75,11.025) 133(-3.25,11.025) 134(-3.75,11.025) 135(-4.25,11.025) 136(-4.75,11.025) 137(-5.25,11.025) 138(-5.75,11.025) 139(-6.25,11.025) 140(-6.75,11.025) 141(-7.25,11.025) 142(-7.75,11.025) 143(-8.25,11.025) 144(-8.75,11.025)
Top Overlay:
  circle w0.6: c-8.75,8.75 r0.3
  circle w0.25: c-11.025,9.425 r0.125
  lines w0.2: -9.75,-9.75 9.75,-9.75 9.75,9.75 -9.75,9.75 -9.75,-9.75
Mechanical 13:
  circle w0.1: c-9.1,9.1 r0.5
  lines w0.1: -10,-10 10,-10 10,10 -10,10 -10,-10
Mechanical 15:
  lines w0.1: -0.5,0 0.5,0 ; 0,-0.5 0,0.5 ; -12,-12 12,-12 12,12 -12,12 -12,-12
3D body: height 3, standoff 0, extent -10,-10 10,10

## 863C-01_M [mm] "144-Pin Shrink Quad Flat Pack 0.5 mm Pitch, IPC Low Density"
height 3
pads (144):
  oval 2.3x0.3 smd: 1(-11.1,8.75) 2(-11.1,8.25) 3(-11.1,7.75) 4(-11.1,7.25) 5(-11.1,6.75) 6(-11.1,6.25) 7(-11.1,5.75) 8(-11.1,5.25) 9(-11.1,4.75) 10(-11.1,4.25) 11(-11.1,3.75) 12(-11.1,3.25) 13(-11.1,2.75) 14(-11.1,2.25) 15(-11.1,1.75) 16(-11.1,1.25) 17(-11.1,0.75) 18(-11.1,0.25) 19(-11.1,-0.25) 20(-11.1,-0.75) 21(-11.1,-1.25) 22(-11.1,-1.75) 23(-11.1,-2.25) 24(-11.1,-2.75) 25(-11.1,-3.25) 26(-11.1,-3.75) 27(-11.1,-4.25) 28(-11.1,-4.75) 29(-11.1,-5.25) 30(-11.1,-5.75) 31(-11.1,-6.25) 32(-11.1,-6.75) 33(-11.1,-7.25) 34(-11.1,-7.75) 35(-11.1,-8.25) 36(-11.1,-8.75) 73(11.1,-8.75) 74(11.1,-8.25) 75(11.1,-7.75) 76(11.1,-7.25) 77(11.1,-6.75) 78(11.1,-6.25) 79(11.1,-5.75) 80(11.1,-5.25) 81(11.1,-4.75) 82(11.1,-4.25) 83(11.1,-3.75) 84(11.1,-3.25) 85(11.1,-2.75) 86(11.1,-2.25) 87(11.1,-1.75) 88(11.1,-1.25) 89(11.1,-0.75) 90(11.1,-0.25) 91(11.1,0.25) 92(11.1,0.75) 93(11.1,1.25) 94(11.1,1.75) 95(11.1,2.25) 96(11.1,2.75) 97(11.1,3.25) 98(11.1,3.75) 99(11.1,4.25) 100(11.1,4.75) 101(11.1,5.25) 102(11.1,5.75) 103(11.1,6.25) 104(11.1,6.75) 105(11.1,7.25) 106(11.1,7.75) 107(11.1,8.25) 108(11.1,8.75)
  oval 0.3x2.3 smd: 37(-8.75,-11.1) 38(-8.25,-11.1) 39(-7.75,-11.1) 40(-7.25,-11.1) 41(-6.75,-11.1) 42(-6.25,-11.1) 43(-5.75,-11.1) 44(-5.25,-11.1) 45(-4.75,-11.1) 46(-4.25,-11.1) 47(-3.75,-11.1) 48(-3.25,-11.1) 49(-2.75,-11.1) 50(-2.25,-11.1) 51(-1.75,-11.1) 52(-1.25,-11.1) 53(-0.75,-11.1) 54(-0.25,-11.1) 55(0.25,-11.1) 56(0.75,-11.1) 57(1.25,-11.1) 58(1.75,-11.1) 59(2.25,-11.1) 60(2.75,-11.1) 61(3.25,-11.1) 62(3.75,-11.1) 63(4.25,-11.1) 64(4.75,-11.1) 65(5.25,-11.1) 66(5.75,-11.1) 67(6.25,-11.1) 68(6.75,-11.1) 69(7.25,-11.1) 70(7.75,-11.1) 71(8.25,-11.1) 72(8.75,-11.1) 109(8.75,11.1) 110(8.25,11.1) 111(7.75,11.1) 112(7.25,11.1) 113(6.75,11.1) 114(6.25,11.1) 115(5.75,11.1) 116(5.25,11.1) 117(4.75,11.1) 118(4.25,11.1) 119(3.75,11.1) 120(3.25,11.1) 121(2.75,11.1) 122(2.25,11.1) 123(1.75,11.1) 124(1.25,11.1) 125(0.75,11.1) 126(0.25,11.1) 127(-0.25,11.1) 128(-0.75,11.1) 129(-1.25,11.1) 130(-1.75,11.1) 131(-2.25,11.1) 132(-2.75,11.1) 133(-3.25,11.1) 134(-3.75,11.1) 135(-4.25,11.1) 136(-4.75,11.1) 137(-5.25,11.1) 138(-5.75,11.1) 139(-6.25,11.1) 140(-6.75,11.1) 141(-7.25,11.1) 142(-7.75,11.1) 143(-8.25,11.1) 144(-8.75,11.1)
Top Overlay:
  circle w0.6: c-8.55,8.55 r0.3
  circle w0.25: c-11.1,9.45 r0.125
  lines w0.2: -9.55,-9.55 9.55,-9.55 9.55,9.55 -9.55,9.55 -9.55,-9.55
Mechanical 13:
  circle w0.1: c-9.1,9.1 r0.5
  lines w0.1: -10,-10 10,-10 10,10 -10,10 -10,-10
Mechanical 15:
  lines w0.1: -0.5,0 0.5,0 ; 0,-0.5 0,0.5 ; -12.75,-12.75 12.75,-12.75 12.75,12.75 -12.75,12.75 -12.75,-12.75
3D body: height 3, standoff 0, extent -10,-10 10,10

## 863C-01_N [mm] "144-Pin Shrink Quad Flat Pack 0.5 mm Pitch, IPC Medium Density"
height 3
pads (144):
  oval 2x0.3 smd: 1(-11.05,8.75) 2(-11.05,8.25) 3(-11.05,7.75) 4(-11.05,7.25) 5(-11.05,6.75) 6(-11.05,6.25) 7(-11.05,5.75) 8(-11.05,5.25) 9(-11.05,4.75) 10(-11.05,4.25) 11(-11.05,3.75) 12(-11.05,3.25) 13(-11.05,2.75) 14(-11.05,2.25) 15(-11.05,1.75) 16(-11.05,1.25) 17(-11.05,0.75) 18(-11.05,0.25) 19(-11.05,-0.25) 20(-11.05,-0.75) 21(-11.05,-1.25) 22(-11.05,-1.75) 23(-11.05,-2.25) 24(-11.05,-2.75) 25(-11.05,-3.25) 26(-11.05,-3.75) 27(-11.05,-4.25) 28(-11.05,-4.75) 29(-11.05,-5.25) 30(-11.05,-5.75) 31(-11.05,-6.25) 32(-11.05,-6.75) 33(-11.05,-7.25) 34(-11.05,-7.75) 35(-11.05,-8.25) 36(-11.05,-8.75) 73(11.05,-8.75) 74(11.05,-8.25) 75(11.05,-7.75) 76(11.05,-7.25) 77(11.05,-6.75) 78(11.05,-6.25) 79(11.05,-5.75) 80(11.05,-5.25) 81(11.05,-4.75) 82(11.05,-4.25) 83(11.05,-3.75) 84(11.05,-3.25) 85(11.05,-2.75) 86(11.05,-2.25) 87(11.05,-1.75) 88(11.05,-1.25) 89(11.05,-0.75) 90(11.05,-0.25) 91(11.05,0.25) 92(11.05,0.75) 93(11.05,1.25) 94(11.05,1.75) 95(11.05,2.25) 96(11.05,2.75) 97(11.05,3.25) 98(11.05,3.75) 99(11.05,4.25) 100(11.05,4.75) 101(11.05,5.25) 102(11.05,5.75) 103(11.05,6.25) 104(11.05,6.75) 105(11.05,7.25) 106(11.05,7.75) 107(11.05,8.25) 108(11.05,8.75)
  oval 0.3x2 smd: 37(-8.75,-11.05) 38(-8.25,-11.05) 39(-7.75,-11.05) 40(-7.25,-11.05) 41(-6.75,-11.05) 42(-6.25,-11.05) 43(-5.75,-11.05) 44(-5.25,-11.05) 45(-4.75,-11.05) 46(-4.25,-11.05) 47(-3.75,-11.05) 48(-3.25,-11.05) 49(-2.75,-11.05) 50(-2.25,-11.05) 51(-1.75,-11.05) 52(-1.25,-11.05) 53(-0.75,-11.05) 54(-0.25,-11.05) 55(0.25,-11.05) 56(0.75,-11.05) 57(1.25,-11.05) 58(1.75,-11.05) 59(2.25,-11.05) 60(2.75,-11.05) 61(3.25,-11.05) 62(3.75,-11.05) 63(4.25,-11.05) 64(4.75,-11.05) 65(5.25,-11.05) 66(5.75,-11.05) 67(6.25,-11.05) 68(6.75,-11.05) 69(7.25,-11.05) 70(7.75,-11.05) 71(8.25,-11.05) 72(8.75,-11.05) 109(8.75,11.05) 110(8.25,11.05) 111(7.75,11.05) 112(7.25,11.05) 113(6.75,11.05) 114(6.25,11.05) 115(5.75,11.05) 116(5.25,11.05) 117(4.75,11.05) 118(4.25,11.05) 119(3.75,11.05) 120(3.25,11.05) 121(2.75,11.05) 122(2.25,11.05) 123(1.75,11.05) 124(1.25,11.05) 125(0.75,11.05) 126(0.25,11.05) 127(-0.25,11.05) 128(-0.75,11.05) 129(-1.25,11.05) 130(-1.75,11.05) 131(-2.25,11.05) 132(-2.75,11.05) 133(-3.25,11.05) 134(-3.75,11.05) 135(-4.25,11.05) 136(-4.75,11.05) 137(-5.25,11.05) 138(-5.75,11.05) 139(-6.25,11.05) 140(-6.75,11.05) 141(-7.25,11.05) 142(-7.75,11.05) 143(-8.25,11.05) 144(-8.75,11.05)
Top Overlay:
  circle w0.6: c-8.65,8.65 r0.3
  circle w0.25: c-11.05,9.45 r0.125
  lines w0.2: -9.65,-9.65 9.65,-9.65 9.65,9.65 -9.65,9.65 -9.65,-9.65
Mechanical 13:
  circle w0.1: c-9.1,9.1 r0.5
  lines w0.1: -10,-10 10,-10 10,10 -10,10 -10,-10
Mechanical 15:
  lines w0.1: -0.5,0 0.5,0 ; 0,-0.5 0,0.5 ; -12.3,-12.3 12.3,-12.3 12.3,12.3 -12.3,12.3 -12.3,-12.3
3D body: height 3, standoff 0, extent -10,-10 10,10

## 864A-01_L [mm] "160-Pin Quad Flat Pack 0.65 mm Pitch, IPC High Density"
height 4.15
pads (160):
  oval 1.65x0.45 smd: 1(-15.1,12.675) 2(-15.1,12.025) 3(-15.1,11.375) 4(-15.1,10.725) 5(-15.1,10.075) 6(-15.1,9.425) 7(-15.1,8.775) 8(-15.1,8.125) 9(-15.1,7.475) 10(-15.1,6.825) 11(-15.1,6.175) 12(-15.1,5.525) 13(-15.1,4.875) 14(-15.1,4.225) 15(-15.1,3.575) 16(-15.1,2.925) 17(-15.1,2.275) 18(-15.1,1.625) 19(-15.1,0.975) 20(-15.1,0.325) 21(-15.1,-0.325) 22(-15.1,-0.975) 23(-15.1,-1.625) 24(-15.1,-2.275) 25(-15.1,-2.925) 26(-15.1,-3.575) 27(-15.1,-4.225) 28(-15.1,-4.875) 29(-15.1,-5.525) 30(-15.1,-6.175) 31(-15.1,-6.825) 32(-15.1,-7.475) 33(-15.1,-8.125) 34(-15.1,-8.775) 35(-15.1,-9.425) 36(-15.1,-10.075) 37(-15.1,-10.725) 38(-15.1,-11.375) 39(-15.1,-12.025) 40(-15.1,-12.675) 81(15.1,-12.675) 82(15.1,-12.025) 83(15.1,-11.375) 84(15.1,-10.725) 85(15.1,-10.075) 86(15.1,-9.425) 87(15.1,-8.775) 88(15.1,-8.125) 89(15.1,-7.475) 90(15.1,-6.825) 91(15.1,-6.175) 92(15.1,-5.525) 93(15.1,-4.875) 94(15.1,-4.225) 95(15.1,-3.575) 96(15.1,-2.925) 97(15.1,-2.275) 98(15.1,-1.625) 99(15.1,-0.975) 100(15.1,-0.325) 101(15.1,0.325) 102(15.1,0.975) 103(15.1,1.625) 104(15.1,2.275) 105(15.1,2.925) 106(15.1,3.575) 107(15.1,4.225) 108(15.1,4.875) 109(15.1,5.525) 110(15.1,6.175) 111(15.1,6.825) 112(15.1,7.475) 113(15.1,8.125) 114(15.1,8.775) 115(15.1,9.425) 116(15.1,10.075) 117(15.1,10.725) 118(15.1,11.375) 119(15.1,12.025) 120(15.1,12.675)
  oval 0.45x1.65 smd: 41(-12.675,-15.1) 42(-12.025,-15.1) 43(-11.375,-15.1) 44(-10.725,-15.1) 45(-10.075,-15.1) 46(-9.425,-15.1) 47(-8.775,-15.1) 48(-8.125,-15.1) 49(-7.475,-15.1) 50(-6.825,-15.1) 51(-6.175,-15.1) 52(-5.525,-15.1) 53(-4.875,-15.1) 54(-4.225,-15.1) 55(-3.575,-15.1) 56(-2.925,-15.1) 57(-2.275,-15.1) 58(-1.625,-15.1) 59(-0.975,-15.1) 60(-0.325,-15.1) 61(0.325,-15.1) 62(0.975,-15.1) 63(1.625,-15.1) 64(2.275,-15.1) 65(2.925,-15.1) 66(3.575,-15.1) 67(4.225,-15.1) 68(4.875,-15.1) 69(5.525,-15.1) 70(6.175,-15.1) 71(6.825,-15.1) 72(7.475,-15.1) 73(8.125,-15.1) 74(8.775,-15.1) 75(9.425,-15.1) 76(10.075,-15.1) 77(10.725,-15.1) 78(11.375,-15.1) 79(12.025,-15.1) 80(12.675,-15.1) 121(12.675,15.1) 122(12.025,15.1) 123(11.375,15.1) 124(10.725,15.1) 125(10.075,15.1) 126(9.425,15.1) 127(8.775,15.1) 128(8.125,15.1) 129(7.475,15.1) 130(6.825,15.1) 131(6.175,15.1) 132(5.525,15.1) 133(4.875,15.1) 134(4.225,15.1) 135(3.575,15.1) 136(2.925,15.1) 137(2.275,15.1) 138(1.625,15.1) 139(0.975,15.1) 140(0.325,15.1) 141(-0.325,15.1) 142(-0.975,15.1) 143(-1.625,15.1) 144(-2.275,15.1) 145(-2.925,15.1) 146(-3.575,15.1) 147(-4.225,15.1) 148(-4.875,15.1) 149(-5.525,15.1) 150(-6.175,15.1) 151(-6.825,15.1) 152(-7.475,15.1) 153(-8.125,15.1) 154(-8.775,15.1) 155(-9.425,15.1) 156(-10.075,15.1) 157(-10.725,15.1) 158(-11.375,15.1) 159(-12.025,15.1) 160(-12.675,15.1)
Top Overlay:
  circle w0.6: c-12.85,12.85 r0.3
  circle w0.25: c-15.1,13.45 r0.125
  lines w0.2: -13.85,-13.85 13.85,-13.85 13.85,13.85 -13.85,13.85 -13.85,-13.85
Mechanical 13:
  circle w0.1: c-13.1,13.1 r0.5
  lines w0.1: -14,-14 14,-14 14,14 -14,14 -14,-14
Mechanical 15:
  lines w0.1: -0.5,0 0.5,0 ; 0,-0.5 0,0.5 ; -16,-16 16,-16 16,16 -16,16 -16,-16
3D body: height 4.15, standoff 0, extent -14,-14 14,14

## 864A-01_M [mm] "160-Pin Quad Flat Pack 0.65 mm Pitch, IPC Low Density"
height 4.15
pads (160):
  oval 2.25x0.45 smd: 1(-15.2,12.675) 2(-15.2,12.025) 3(-15.2,11.375) 4(-15.2,10.725) 5(-15.2,10.075) 6(-15.2,9.425) 7(-15.2,8.775) 8(-15.2,8.125) 9(-15.2,7.475) 10(-15.2,6.825) 11(-15.2,6.175) 12(-15.2,5.525) 13(-15.2,4.875) 14(-15.2,4.225) 15(-15.2,3.575) 16(-15.2,2.925) 17(-15.2,2.275) 18(-15.2,1.625) 19(-15.2,0.975) 20(-15.2,0.325) 21(-15.2,-0.325) 22(-15.2,-0.975) 23(-15.2,-1.625) 24(-15.2,-2.275) 25(-15.2,-2.925) 26(-15.2,-3.575) 27(-15.2,-4.225) 28(-15.2,-4.875) 29(-15.2,-5.525) 30(-15.2,-6.175) 31(-15.2,-6.825) 32(-15.2,-7.475) 33(-15.2,-8.125) 34(-15.2,-8.775) 35(-15.2,-9.425) 36(-15.2,-10.075) 37(-15.2,-10.725) 38(-15.2,-11.375) 39(-15.2,-12.025) 40(-15.2,-12.675) 81(15.2,-12.675) 82(15.2,-12.025) 83(15.2,-11.375) 84(15.2,-10.725) 85(15.2,-10.075) 86(15.2,-9.425) 87(15.2,-8.775) 88(15.2,-8.125) 89(15.2,-7.475) 90(15.2,-6.825) 91(15.2,-6.175) 92(15.2,-5.525) 93(15.2,-4.875) 94(15.2,-4.225) 95(15.2,-3.575) 96(15.2,-2.925) 97(15.2,-2.275) 98(15.2,-1.625) 99(15.2,-0.975) 100(15.2,-0.325) 101(15.2,0.325) 102(15.2,0.975) 103(15.2,1.625) 104(15.2,2.275) 105(15.2,2.925) 106(15.2,3.575) 107(15.2,4.225) 108(15.2,4.875) 109(15.2,5.525) 110(15.2,6.175) 111(15.2,6.825) 112(15.2,7.475) 113(15.2,8.125) 114(15.2,8.775) 115(15.2,9.425) 116(15.2,10.075) 117(15.2,10.725) 118(15.2,11.375) 119(15.2,12.025) 120(15.2,12.675)
  oval 0.45x2.25 smd: 41(-12.675,-15.2) 42(-12.025,-15.2) 43(-11.375,-15.2) 44(-10.725,-15.2) 45(-10.075,-15.2) 46(-9.425,-15.2) 47(-8.775,-15.2) 48(-8.125,-15.2) 49(-7.475,-15.2) 50(-6.825,-15.2) 51(-6.175,-15.2) 52(-5.525,-15.2) 53(-4.875,-15.2) 54(-4.225,-15.2) 55(-3.575,-15.2) 56(-2.925,-15.2) 57(-2.275,-15.2) 58(-1.625,-15.2) 59(-0.975,-15.2) 60(-0.325,-15.2) 61(0.325,-15.2) 62(0.975,-15.2) 63(1.625,-15.2) 64(2.275,-15.2) 65(2.925,-15.2) 66(3.575,-15.2) 67(4.225,-15.2) 68(4.875,-15.2) 69(5.525,-15.2) 70(6.175,-15.2) 71(6.825,-15.2) 72(7.475,-15.2) 73(8.125,-15.2) 74(8.775,-15.2) 75(9.425,-15.2) 76(10.075,-15.2) 77(10.725,-15.2) 78(11.375,-15.2) 79(12.025,-15.2) 80(12.675,-15.2) 121(12.675,15.2) 122(12.025,15.2) 123(11.375,15.2) 124(10.725,15.2) 125(10.075,15.2) 126(9.425,15.2) 127(8.775,15.2) 128(8.125,15.2) 129(7.475,15.2) 130(6.825,15.2) 131(6.175,15.2) 132(5.525,15.2) 133(4.875,15.2) 134(4.225,15.2) 135(3.575,15.2) 136(2.925,15.2) 137(2.275,15.2) 138(1.625,15.2) 139(0.975,15.2) 140(0.325,15.2) 141(-0.325,15.2) 142(-0.975,15.2) 143(-1.625,15.2) 144(-2.275,15.2) 145(-2.925,15.2) 146(-3.575,15.2) 147(-4.225,15.2) 148(-4.875,15.2) 149(-5.525,15.2) 150(-6.175,15.2) 151(-6.825,15.2) 152(-7.475,15.2) 153(-8.125,15.2) 154(-8.775,15.2) 155(-9.425,15.2) 156(-10.075,15.2) 157(-10.725,15.2) 158(-11.375,15.2) 159(-12.025,15.2) 160(-12.675,15.2)
Top Overlay:
  circle w0.6: c-12.65,12.65 r0.3
  circle w0.25: c-15.2,13.45 r0.125
  lines w0.2: -13.65,-13.65 13.65,-13.65 13.65,13.65 -13.65,13.65 -13.65,-13.65
Mechanical 13:
  circle w0.1: c-13.1,13.1 r0.5
  lines w0.1: -14,-14 14,-14 14,14 -14,14 -14,-14
Mechanical 15:
  lines w0.1: -0.5,0 0.5,0 ; 0,-0.5 0,0.5 ; -16.8,-16.8 16.8,-16.8 16.8,16.8 -16.8,16.8 -16.8,-16.8
3D body: height 4.15, standoff 0, extent -14,-14 14,14

## 864A-01_N [mm] "160-Pin Quad Flat Pack 0.65 mm Pitch, IPC Medium Density"
height 4.15
pads (160):
  oval 1.95x0.45 smd: 1(-15.15,12.675) 2(-15.15,12.025) 3(-15.15,11.375) 4(-15.15,10.725) 5(-15.15,10.075) 6(-15.15,9.425) 7(-15.15,8.775) 8(-15.15,8.125) 9(-15.15,7.475) 10(-15.15,6.825) 11(-15.15,6.175) 12(-15.15,5.525) 13(-15.15,4.875) 14(-15.15,4.225) 15(-15.15,3.575) 16(-15.15,2.925) 17(-15.15,2.275) 18(-15.15,1.625) 19(-15.15,0.975) 20(-15.15,0.325) 21(-15.15,-0.325) 22(-15.15,-0.975) 23(-15.15,-1.625) 24(-15.15,-2.275) 25(-15.15,-2.925) 26(-15.15,-3.575) 27(-15.15,-4.225) 28(-15.15,-4.875) 29(-15.15,-5.525) 30(-15.15,-6.175) 31(-15.15,-6.825) 32(-15.15,-7.475) 33(-15.15,-8.125) 34(-15.15,-8.775) 35(-15.15,-9.425) 36(-15.15,-10.075) 37(-15.15,-10.725) 38(-15.15,-11.375) 39(-15.15,-12.025) 40(-15.15,-12.675) 81(15.15,-12.675) 82(15.15,-12.025) 83(15.15,-11.375) 84(15.15,-10.725) 85(15.15,-10.075) 86(15.15,-9.425) 87(15.15,-8.775) 88(15.15,-8.125) 89(15.15,-7.475) 90(15.15,-6.825) 91(15.15,-6.175) 92(15.15,-5.525) 93(15.15,-4.875) 94(15.15,-4.225) 95(15.15,-3.575) 96(15.15,-2.925) 97(15.15,-2.275) 98(15.15,-1.625) 99(15.15,-0.975) 100(15.15,-0.325) 101(15.15,0.325) 102(15.15,0.975) 103(15.15,1.625) 104(15.15,2.275) 105(15.15,2.925) 106(15.15,3.575) 107(15.15,4.225) 108(15.15,4.875) 109(15.15,5.525) 110(15.15,6.175) 111(15.15,6.825) 112(15.15,7.475) 113(15.15,8.125) 114(15.15,8.775) 115(15.15,9.425) 116(15.15,10.075) 117(15.15,10.725) 118(15.15,11.375) 119(15.15,12.025) 120(15.15,12.675)
  oval 0.45x1.95 smd: 41(-12.675,-15.15) 42(-12.025,-15.15) 43(-11.375,-15.15) 44(-10.725,-15.15) 45(-10.075,-15.15) 46(-9.425,-15.15) 47(-8.775,-15.15) 48(-8.125,-15.15) 49(-7.475,-15.15) 50(-6.825,-15.15) 51(-6.175,-15.15) 52(-5.525,-15.15) 53(-4.875,-15.15) 54(-4.225,-15.15) 55(-3.575,-15.15) 56(-2.925,-15.15) 57(-2.275,-15.15) 58(-1.625,-15.15) 59(-0.975,-15.15) 60(-0.325,-15.15) 61(0.325,-15.15) 62(0.975,-15.15) 63(1.625,-15.15) 64(2.275,-15.15) 65(2.925,-15.15) 66(3.575,-15.15) 67(4.225,-15.15) 68(4.875,-15.15) 69(5.525,-15.15) 70(6.175,-15.15) 71(6.825,-15.15) 72(7.475,-15.15) 73(8.125,-15.15) 74(8.775,-15.15) 75(9.425,-15.15) 76(10.075,-15.15) 77(10.725,-15.15) 78(11.375,-15.15) 79(12.025,-15.15) 80(12.675,-15.15) 121(12.675,15.15) 122(12.025,15.15) 123(11.375,15.15) 124(10.725,15.15) 125(10.075,15.15) 126(9.425,15.15) 127(8.775,15.15) 128(8.125,15.15) 129(7.475,15.15) 130(6.825,15.15) 131(6.175,15.15) 132(5.525,15.15) 133(4.875,15.15) 134(4.225,15.15) 135(3.575,15.15) 136(2.925,15.15) 137(2.275,15.15) 138(1.625,15.15) 139(0.975,15.15) 140(0.325,15.15) 141(-0.325,15.15) 142(-0.975,15.15) 143(-1.625,15.15) 144(-2.275,15.15) 145(-2.925,15.15) 146(-3.575,15.15) 147(-4.225,15.15) 148(-4.875,15.15) 149(-5.525,15.15) 150(-6.175,15.15) 151(-6.825,15.15) 152(-7.475,15.15) 153(-8.125,15.15) 154(-8.775,15.15) 155(-9.425,15.15) 156(-10.075,15.15) 157(-10.725,15.15) 158(-11.375,15.15) 159(-12.025,15.15) 160(-12.675,15.15)
Top Overlay:
  circle w0.6: c-12.75,12.75 r0.3
  circle w0.25: c-15.15,13.45 r0.125
  lines w0.2: -13.75,-13.75 13.75,-13.75 13.75,13.75 -13.75,13.75 -13.75,-13.75
Mechanical 13:
  circle w0.1: c-13.1,13.1 r0.5
  lines w0.1: -14,-14 14,-14 14,14 -14,14 -14,-14
Mechanical 15:
  lines w0.1: -0.5,0 0.5,0 ; 0,-0.5 0,0.5 ; -16.35,-16.35 16.35,-16.35 16.35,16.35 -16.35,16.35 -16.35,-16.35
3D body: height 4.15, standoff 0, extent -14,-14 14,14

## 864A-03_L [mm] "160-Pin Plastic Quad Flat Pack 0.65 mm Pitch, IPC High Density"
height 3.85
pads (160):
  oval 1.65x0.45 smd: 1(-15.1,12.675) 2(-15.1,12.025) 3(-15.1,11.375) 4(-15.1,10.725) 5(-15.1,10.075) 6(-15.1,9.425) 7(-15.1,8.775) 8(-15.1,8.125) 9(-15.1,7.475) 10(-15.1,6.825) 11(-15.1,6.175) 12(-15.1,5.525) 13(-15.1,4.875) 14(-15.1,4.225) 15(-15.1,3.575) 16(-15.1,2.925) 17(-15.1,2.275) 18(-15.1,1.625) 19(-15.1,0.975) 20(-15.1,0.325) 21(-15.1,-0.325) 22(-15.1,-0.975) 23(-15.1,-1.625) 24(-15.1,-2.275) 25(-15.1,-2.925) 26(-15.1,-3.575) 27(-15.1,-4.225) 28(-15.1,-4.875) 29(-15.1,-5.525) 30(-15.1,-6.175) 31(-15.1,-6.825) 32(-15.1,-7.475) 33(-15.1,-8.125) 34(-15.1,-8.775) 35(-15.1,-9.425) 36(-15.1,-10.075) 37(-15.1,-10.725) 38(-15.1,-11.375) 39(-15.1,-12.025) 40(-15.1,-12.675) 81(15.1,-12.675) 82(15.1,-12.025) 83(15.1,-11.375) 84(15.1,-10.725) 85(15.1,-10.075) 86(15.1,-9.425) 87(15.1,-8.775) 88(15.1,-8.125) 89(15.1,-7.475) 90(15.1,-6.825) 91(15.1,-6.175) 92(15.1,-5.525) 93(15.1,-4.875) 94(15.1,-4.225) 95(15.1,-3.575) 96(15.1,-2.925) 97(15.1,-2.275) 98(15.1,-1.625) 99(15.1,-0.975) 100(15.1,-0.325) 101(15.1,0.325) 102(15.1,0.975) 103(15.1,1.625) 104(15.1,2.275) 105(15.1,2.925) 106(15.1,3.575) 107(15.1,4.225) 108(15.1,4.875) 109(15.1,5.525) 110(15.1,6.175) 111(15.1,6.825) 112(15.1,7.475) 113(15.1,8.125) 114(15.1,8.775) 115(15.1,9.425) 116(15.1,10.075) 117(15.1,10.725) 118(15.1,11.375) 119(15.1,12.025) 120(15.1,12.675)
  oval 0.45x1.65 smd: 41(-12.675,-15.1) 42(-12.025,-15.1) 43(-11.375,-15.1) 44(-10.725,-15.1) 45(-10.075,-15.1) 46(-9.425,-15.1) 47(-8.775,-15.1) 48(-8.125,-15.1) 49(-7.475,-15.1) 50(-6.825,-15.1) 51(-6.175,-15.1) 52(-5.525,-15.1) 53(-4.875,-15.1) 54(-4.225,-15.1) 55(-3.575,-15.1) 56(-2.925,-15.1) 57(-2.275,-15.1) 58(-1.625,-15.1) 59(-0.975,-15.1) 60(-0.325,-15.1) 61(0.325,-15.1) 62(0.975,-15.1) 63(1.625,-15.1) 64(2.275,-15.1) 65(2.925,-15.1) 66(3.575,-15.1) 67(4.225,-15.1) 68(4.875,-15.1) 69(5.525,-15.1) 70(6.175,-15.1) 71(6.825,-15.1) 72(7.475,-15.1) 73(8.125,-15.1) 74(8.775,-15.1) 75(9.425,-15.1) 76(10.075,-15.1) 77(10.725,-15.1) 78(11.375,-15.1) 79(12.025,-15.1) 80(12.675,-15.1) 121(12.675,15.1) 122(12.025,15.1) 123(11.375,15.1) 124(10.725,15.1) 125(10.075,15.1) 126(9.425,15.1) 127(8.775,15.1) 128(8.125,15.1) 129(7.475,15.1) 130(6.825,15.1) 131(6.175,15.1) 132(5.525,15.1) 133(4.875,15.1) 134(4.225,15.1) 135(3.575,15.1) 136(2.925,15.1) 137(2.275,15.1) 138(1.625,15.1) 139(0.975,15.1) 140(0.325,15.1) 141(-0.325,15.1) 142(-0.975,15.1) 143(-1.625,15.1) 144(-2.275,15.1) 145(-2.925,15.1) 146(-3.575,15.1) 147(-4.225,15.1) 148(-4.875,15.1) 149(-5.525,15.1) 150(-6.175,15.1) 151(-6.825,15.1) 152(-7.475,15.1) 153(-8.125,15.1) 154(-8.775,15.1) 155(-9.425,15.1) 156(-10.075,15.1) 157(-10.725,15.1) 158(-11.375,15.1) 159(-12.025,15.1) 160(-12.675,15.1)
Top Overlay:
  circle w0.6: c-12.85,12.85 r0.3
  circle w0.25: c-15.1,13.45 r0.125
  lines w0.2: -13.85,-13.85 13.85,-13.85 13.85,13.85 -13.85,13.85 -13.85,-13.85
Mechanical 13:
  circle w0.1: c-13.1,13.1 r0.5
  lines w0.1: -14,-14 14,-14 14,14 -14,14 -14,-14
Mechanical 15:
  lines w0.1: -0.5,0 0.5,0 ; 0,-0.5 0,0.5 ; -16,-16 16,-16 16,16 -16,16 -16,-16
3D body: height 3.85, standoff 0, extent -14,-14 14,14

## 864A-03_M [mm] "160-Pin Plastic Quad Flat Pack 0.65 mm Pitch, IPC Low Density"
height 3.85
pads (160):
  oval 2.25x0.45 smd: 1(-15.2,12.675) 2(-15.2,12.025) 3(-15.2,11.375) 4(-15.2,10.725) 5(-15.2,10.075) 6(-15.2,9.425) 7(-15.2,8.775) 8(-15.2,8.125) 9(-15.2,7.475) 10(-15.2,6.825) 11(-15.2,6.175) 12(-15.2,5.525) 13(-15.2,4.875) 14(-15.2,4.225) 15(-15.2,3.575) 16(-15.2,2.925) 17(-15.2,2.275) 18(-15.2,1.625) 19(-15.2,0.975) 20(-15.2,0.325) 21(-15.2,-0.325) 22(-15.2,-0.975) 23(-15.2,-1.625) 24(-15.2,-2.275) 25(-15.2,-2.925) 26(-15.2,-3.575) 27(-15.2,-4.225) 28(-15.2,-4.875) 29(-15.2,-5.525) 30(-15.2,-6.175) 31(-15.2,-6.825) 32(-15.2,-7.475) 33(-15.2,-8.125) 34(-15.2,-8.775) 35(-15.2,-9.425) 36(-15.2,-10.075) 37(-15.2,-10.725) 38(-15.2,-11.375) 39(-15.2,-12.025) 40(-15.2,-12.675) 81(15.2,-12.675) 82(15.2,-12.025) 83(15.2,-11.375) 84(15.2,-10.725) 85(15.2,-10.075) 86(15.2,-9.425) 87(15.2,-8.775) 88(15.2,-8.125) 89(15.2,-7.475) 90(15.2,-6.825) 91(15.2,-6.175) 92(15.2,-5.525) 93(15.2,-4.875) 94(15.2,-4.225) 95(15.2,-3.575) 96(15.2,-2.925) 97(15.2,-2.275) 98(15.2,-1.625) 99(15.2,-0.975) 100(15.2,-0.325) 101(15.2,0.325) 102(15.2,0.975) 103(15.2,1.625) 104(15.2,2.275) 105(15.2,2.925) 106(15.2,3.575) 107(15.2,4.225) 108(15.2,4.875) 109(15.2,5.525) 110(15.2,6.175) 111(15.2,6.825) 112(15.2,7.475) 113(15.2,8.125) 114(15.2,8.775) 115(15.2,9.425) 116(15.2,10.075) 117(15.2,10.725) 118(15.2,11.375) 119(15.2,12.025) 120(15.2,12.675)
  oval 0.45x2.25 smd: 41(-12.675,-15.2) 42(-12.025,-15.2) 43(-11.375,-15.2) 44(-10.725,-15.2) 45(-10.075,-15.2) 46(-9.425,-15.2) 47(-8.775,-15.2) 48(-8.125,-15.2) 49(-7.475,-15.2) 50(-6.825,-15.2) 51(-6.175,-15.2) 52(-5.525,-15.2) 53(-4.875,-15.2) 54(-4.225,-15.2) 55(-3.575,-15.2) 56(-2.925,-15.2) 57(-2.275,-15.2) 58(-1.625,-15.2) 59(-0.975,-15.2) 60(-0.325,-15.2) 61(0.325,-15.2) 62(0.975,-15.2) 63(1.625,-15.2) 64(2.275,-15.2) 65(2.925,-15.2) 66(3.575,-15.2) 67(4.225,-15.2) 68(4.875,-15.2) 69(5.525,-15.2) 70(6.175,-15.2) 71(6.825,-15.2) 72(7.475,-15.2) 73(8.125,-15.2) 74(8.775,-15.2) 75(9.425,-15.2) 76(10.075,-15.2) 77(10.725,-15.2) 78(11.375,-15.2) 79(12.025,-15.2) 80(12.675,-15.2) 121(12.675,15.2) 122(12.025,15.2) 123(11.375,15.2) 124(10.725,15.2) 125(10.075,15.2) 126(9.425,15.2) 127(8.775,15.2) 128(8.125,15.2) 129(7.475,15.2) 130(6.825,15.2) 131(6.175,15.2) 132(5.525,15.2) 133(4.875,15.2) 134(4.225,15.2) 135(3.575,15.2) 136(2.925,15.2) 137(2.275,15.2) 138(1.625,15.2) 139(0.975,15.2) 140(0.325,15.2) 141(-0.325,15.2) 142(-0.975,15.2) 143(-1.625,15.2) 144(-2.275,15.2) 145(-2.925,15.2) 146(-3.575,15.2) 147(-4.225,15.2) 148(-4.875,15.2) 149(-5.525,15.2) 150(-6.175,15.2) 151(-6.825,15.2) 152(-7.475,15.2) 153(-8.125,15.2) 154(-8.775,15.2) 155(-9.425,15.2) 156(-10.075,15.2) 157(-10.725,15.2) 158(-11.375,15.2) 159(-12.025,15.2) 160(-12.675,15.2)
Top Overlay:
  circle w0.6: c-12.65,12.65 r0.3
  circle w0.25: c-15.2,13.45 r0.125
  lines w0.2: -13.65,-13.65 13.65,-13.65 13.65,13.65 -13.65,13.65 -13.65,-13.65
Mechanical 13:
  circle w0.1: c-13.1,13.1 r0.5
  lines w0.1: -14,-14 14,-14 14,14 -14,14 -14,-14
Mechanical 15:
  lines w0.1: -0.5,0 0.5,0 ; 0,-0.5 0,0.5 ; -16.8,-16.8 16.8,-16.8 16.8,16.8 -16.8,16.8 -16.8,-16.8
3D body: height 3.85, standoff 0, extent -14,-14 14,14